# Altium schematic symbol library TC7W74FK,LF.SchLib: 1 symbol
Pins are listed as number, name and electrical type; pins without a type are passive.

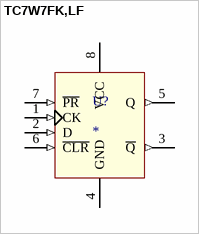
[diagram p0: symbol TC7W7FK,LF]

## TC7W7FK,LF
designator U?
footprint SSOP8-P-0.50A
pins: 1 CK (in), 2 D (in), 3 ~{Q} (out), 4 GND (power), 5 Q (out), 6 ~{CLR} (in), 7 ~{PR} (in), 8 VCC (power)